# Altium schematic symbol library AS-205.SchLib: 1 symbol
Pins are listed as number, name and electrical type; pins without a type are passive.

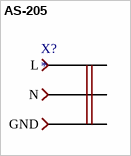
[diagram p0: symbol AS-205]

## AS-205
designator X?
footprint AS-205
pins: 1 L, 2 N, 3 GND